# Altium footprint library PCB - LEADLESS - BGA - STM VFBGA169 B0LA.PcbLib: 1 footprints
Each footprint in its own frame and in the unit in brackets; x right, y up, seen from the top. Pads: shape width x height; smd on the part's side, far side on the other; paste and mask are expansions set on the pad; w line width, h text height; cw(c..) or ccw(c..) is an arc to the next point about the centre after c.
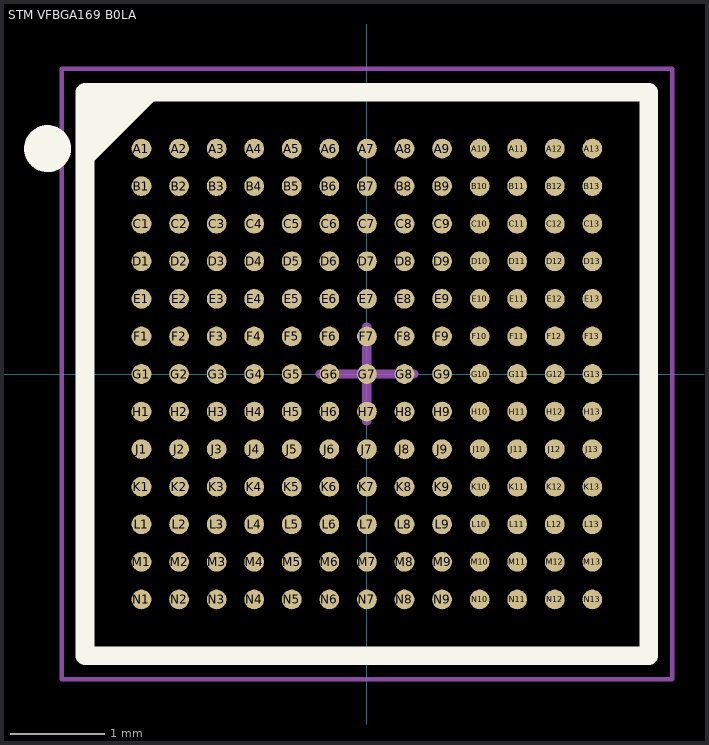
[diagram p0: the footprint, top view; thin cyan lines are the x and y axes]

## STM VFBGA169 B0LA [mm] "VFBGA, 169-Leads, Body 6.00x6.00mmx1.00mm, Pitch 0.40mm"
height 1
pads (169):
  round 0.21 smd: A1(-2.4,2.4) A2(-2,2.4) A3(-1.6,2.4) A4(-1.2,2.4) A5(-0.8,2.4) A6(-0.4,2.4) A7(0,2.4) A8(0.4,2.4) A9(0.8,2.4) A10(1.2,2.4) A11(1.6,2.4) A12(2,2.4) A13(2.4,2.4) B1(-2.4,2) B2(-2,2) B3(-1.6,2) B4(-1.2,2) B5(-0.8,2) B6(-0.4,2) B7(0,2) B8(0.4,2) B9(0.8,2) B10(1.2,2) B11(1.6,2) B12(2,2) B13(2.4,2) C1(-2.4,1.6) C2(-2,1.6) C3(-1.6,1.6) C4(-1.2,1.6) C5(-0.8,1.6) C6(-0.4,1.6) C7(0,1.6) C8(0.4,1.6) C9(0.8,1.6) C10(1.2,1.6) C11(1.6,1.6) C12(2,1.6) C13(2.4,1.6) D1(-2.4,1.2) D2(-2,1.2) D3(-1.6,1.2) D4(-1.2,1.2) D5(-0.8,1.2) D6(-0.4,1.2) D7(0,1.2) D8(0.4,1.2) D9(0.8,1.2) D10(1.2,1.2) D11(1.6,1.2) D12(2,1.2) D13(2.4,1.2) E1(-2.4,0.8) E2(-2,0.8) E3(-1.6,0.8) E4(-1.2,0.8) E5(-0.8,0.8) E6(-0.4,0.8) E7(0,0.8) E8(0.4,0.8) E9(0.8,0.8) E10(1.2,0.8) E11(1.6,0.8) E12(2,0.8) E13(2.4,0.8) F1(-2.4,0.4) F2(-2,0.4) F3(-1.6,0.4) F4(-1.2,0.4) F5(-0.8,0.4) F6(-0.4,0.4) F7(0,0.4) F8(0.4,0.4) F9(0.8,0.4) F10(1.2,0.4) F11(1.6,0.4) F12(2,0.4) F13(2.4,0.4) G1(-2.4,0) G2(-2,0) G3(-1.6,0) G4(-1.2,0) G5(-0.8,0) G6(-0.4,0) G7(0,0) G8(0.4,0) G9(0.8,0) G10(1.2,0) G11(1.6,0) G12(2,0) G13(2.4,0) H1(-2.4,-0.4) H2(-2,-0.4) H3(-1.6,-0.4) H4(-1.2,-0.4) H5(-0.8,-0.4) H6(-0.4,-0.4) H7(0,-0.4) H8(0.4,-0.4) H9(0.8,-0.4) H10(1.2,-0.4) H11(1.6,-0.4) H12(2,-0.4) H13(2.4,-0.4) J1(-2.4,-0.8) J2(-2,-0.8) J3(-1.6,-0.8) J4(-1.2,-0.8) J5(-0.8,-0.8) J6(-0.4,-0.8) J7(0,-0.8) J8(0.4,-0.8) J9(0.8,-0.8) J10(1.2,-0.8) J11(1.6,-0.8) J12(2,-0.8) J13(2.4,-0.8) K1(-2.4,-1.2) K2(-2,-1.2) K3(-1.6,-1.2) K4(-1.2,-1.2) K5(-0.8,-1.2) K6(-0.4,-1.2) K7(0,-1.2) K8(0.4,-1.2) K9(0.8,-1.2) K10(1.2,-1.2) K11(1.6,-1.2) K12(2,-1.2) K13(2.4,-1.2) L1(-2.4,-1.6) L2(-2,-1.6) L3(-1.6,-1.6) L4(-1.2,-1.6) L5(-0.8,-1.6) L6(-0.4,-1.6) L7(0,-1.6) L8(0.4,-1.6) L9(0.8,-1.6) L10(1.2,-1.6) L11(1.6,-1.6) L12(2,-1.6) L13(2.4,-1.6) M1(-2.4,-2) M2(-2,-2) M3(-1.6,-2) M4(-1.2,-2) M5(-0.8,-2) M6(-0.4,-2) M7(0,-2) M8(0.4,-2) M9(0.8,-2) M10(1.2,-2) M11(1.6,-2) M12(2,-2) M13(2.4,-2) N1(-2.4,-2.4) N2(-2,-2.4) N3(-1.6,-2.4) N4(-1.2,-2.4) N5(-0.8,-2.4) N6(-0.4,-2.4) N7(0,-2.4) N8(0.4,-2.4) N9(0.8,-2.4) N10(1.2,-2.4) N11(1.6,-2.4) N12(2,-2.4) N13(2.4,-2.4)
Top Overlay:
  circle w0.25: c-3.4,2.4 r0.125
  region: -2.3,3 -3,2.3 -3,3
  lines w0.2: -3,2.314 -2.314,3 ; -3,-3 3,-3 3,3 -3,3 -3,-3
Mechanical 13:
  lines w0.1: -3,-3 3,-3 3,3 -3,3 -3,-3
Mechanical 15:
  lines w0.05: -3.25,-3.25 3.25,-3.25 3.25,3.25 -3.25,3.25 -3.25,-3.25
  lines w0.1: -0.5,0 0.5,0 ; 0,-0.5 0,0.5
3D body "STM VFBGA169 B0LA.step": height 1, standoff 0, extent -3,-3 3,3